# EAGLE library part PA6H (library gtop)
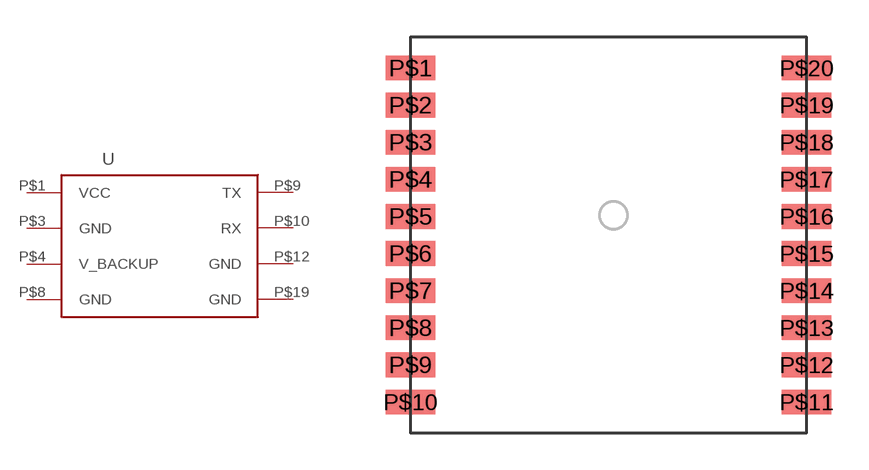
[diagram p0: symbol with the pads of PA6H_PRINT; footprint PA6H_PRINT]

Designator prefix -

## PA6H  [PA6H_PRINT]
P$1  VCC
P$3  GND
P$4  V_BACKUP
P$8  GND
P$9  TX
P$10  RX
P$12  GND
P$19  GND

## Footprint PA6H_PRINT (pad centres in mm)
smd 2 x 1: P$1 -8,6.75; P$2 -8,5.25; P$3 -8,3.75; P$4 -8,2.25; P$5 -8,0.75; P$6 -8,-0.75; P$7 -8,-2.25; P$8 -8,-3.75; P$9 -8,-5.25; P$10 -8,-6.75; P$11 8,-6.75; P$12 8,-5.25; P$13 8,-3.75; P$14 8,-2.25; P$15 8,-0.75; P$16 8,0.75; P$17 8,2.25; P$18 8,3.75; P$19 8,5.25; P$20 8,6.75